# Altium schematic symbol library EEEFK1V101GL.SchLib: 1 symbol
Pins are listed as number, name and electrical type; pins without a type are passive.

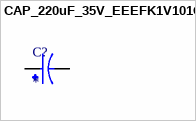
[diagram p0: symbol CAP_220uF_35V_EEEFK1V101GL]

## CAP_220uF_35V_EEEFK1V101GL
designator C?
CAP ALUM 100UF 20% 35V SMD; MF: Panasonic; MP: EEEFK1V101GL; SnapEDA_Link: https://www.snapeda.com/parts/EEEFK1V101GL/Panasonic/view-part/?ref=snap; Package: RADIAL-2 Panasonic; Value: *; Check_prices: https://www.snapeda.com/parts/EEEFK1V101GL/Panasonic/view-part/?ref=eda
footprint CAP_EEEFK1V101GL
pins: 1, 2